# Altium footprint library FootPrintLib_4.PcbLib: 700 footprints (part 4 of 44)
Each footprint in its own frame and in the unit in brackets; x right, y up, seen from the top. Pads: shape width x height; smd on the part's side, far side on the other; paste and mask are expansions set on the pad; w line width, h text height; cw(c..) or ccw(c..) is an arc to the next point about the centre after c.
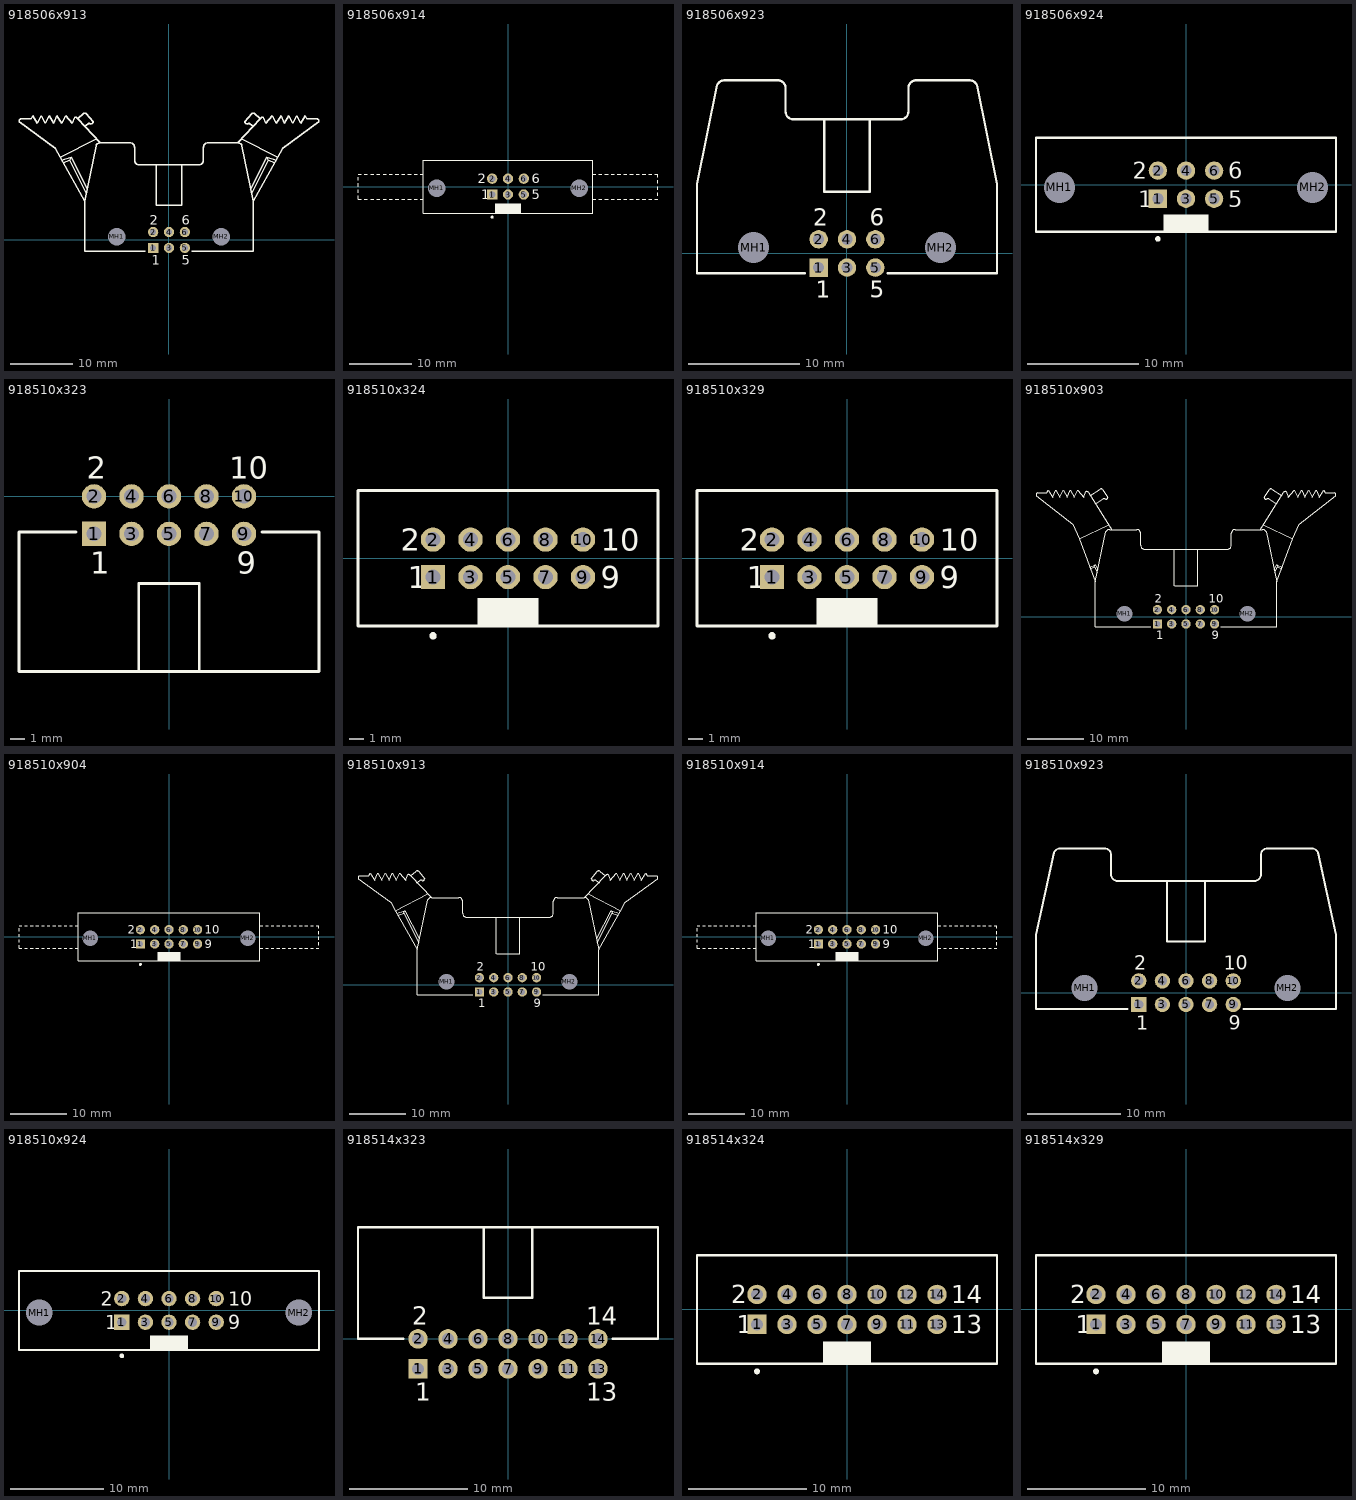
[diagram p3: the footprints below, top view; thin cyan lines are the x and y axes]

## 918506x913 [mm] "Connector; IDC, Thru-Hole; 6 Position; Right Angle; Pitch 2.54 mm; Body 26.90 x 8.5 x 23.30 mm (LxHxW), Locking levers"
height 23.3
pads (8):
  rect 1.65x1.65 hole 1: 1(-2.54,-1.27)
  round 1.65 hole 1: 2(-2.54,1.27) 3(0,-1.27) 4(0,1.27) 5(2.54,-1.27) 6(2.54,1.27)
  round 2.5 hole 2.8 unplated: MH1(-8.38,0.53) MH2(8.38,0.53)
Top Overlay:
  lines w0.2: -17.119,12.722 -15.631,13.218 ; -16.891,12.377 -15.873,12.716 ; -13.488,18.198 -12.923,18.617 cw(c-12.787,18.227) -12.52,18.542 ccw(c-12.467,18.857) -12.148,18.877 -13.207,20.156 ccw(c-13.473,19.899) -13.622,20.238 -14.628,19.388 ; -13.203,7.442 -15.873,12.716 ; -13.056,8.195 -15.631,13.218 ; -11.57,16.204 -17.389,13.199 ; -10.957,15.533 -14.628,19.388 ; -3.765,-1.77 -13.45,-1.77 -13.45,6.23 ; -2.05,5.53 -2.05,12.03 ; -2.04,5.53 2.06,5.53 ; 2.05,5.534 2.05,12.03 ; 3.65,-1.77 13.45,-1.77 13.45,6.23 ; 10.957,15.533 14.628,19.388 ; 11.57,16.204 17.389,13.199 ; 13.056,8.195 15.631,13.218 ; 13.203,7.442 15.873,12.716 ; 13.488,18.198 12.923,18.617 ccw(c12.787,18.227) 12.52,18.542 cw(c12.467,18.857) 12.148,18.877 13.207,20.156 cw(c13.473,19.899) 13.622,20.238 14.628,19.388 ; 16.891,12.377 15.873,12.716 ; 17.119,12.722 15.631,13.218 ; -22.03,19.359 -23.641,19.359 ccw(c-23.641,19.02) -23.95,18.879 -18.195,14.654 -17.389,13.199 ; -22.03,19.359 -21.774,19.83 ; -22.03,19.359 -21.774,19.83 ; -21.774,19.83 -21.03,18.63 -20.43,19.83 -19.78,18.63 -19.16,19.83 -18.46,18.63 -17.91,19.83 -17.16,18.63 -16.53,19.83 -15.5,18.63 -15.093,19.594 cw(c-14.951,19.285) -14.628,19.388 ; -17.389,13.199 -13.45,6.23 ; -15.873,12.716 -15.631,13.218 ; -13.45,6.23 -11.647,15.097 cw(c-11,14.83) -11,15.53 -6.21,15.53 cw(c-6.21,14.83) -5.51,14.83 -5.51,12.73 ccw(c-4.81,12.73) -4.81,12.03 4.81,12.03 ccw(c4.81,12.73) 5.51,12.73 5.51,14.83 cw(c6.21,14.83) 6.21,15.53 11,15.53 cw(c11,14.83) 11.647,15.097 13.45,6.23 ; 13.45,6.23 17.389,13.199 ; 14.628,19.388 cw(c14.951,19.285) 15.093,19.594 15.5,18.63 16.53,19.83 17.16,18.63 17.91,19.83 18.46,18.63 19.16,19.83 19.78,18.63 20.43,19.83 21.03,18.63 21.775,19.83 ; 15.631,13.218 15.873,12.716 ; 17.389,13.199 18.195,14.654 23.95,18.879 ccw(c23.641,19.02) 23.641,19.359 22.03,19.359 ; 21.775,19.83 22.03,19.359 ; 21.775,19.83 22.03,19.359
  text "2" at -3.04,2.47 h1.5
  text "1" at -2.79,-3.97 h1.5
  text "6" at 2.04,2.47 h1.5
  text "5" at 2.04,-3.97 h1.5

## 918506x914 [mm] "Connector; IDC, Thru-Hole; 6 Position; Vertical; Pitch 2.54 mm; Body 26.90 x 8.5 x 23.30 mm (LxWxH), Locking levers"
height 23.3
pads (8):
  rect 1.65x1.65 hole 1: 1(-2.54,-1.27)
  round 1.65 hole 1: 2(-2.54,1.27) 3(0,-1.27) 4(0,1.27) 5(2.54,-1.27) 6(2.54,1.27)
  round 2.5 hole 2.8 unplated: MH1(-11.43,-0.25) MH2(11.43,-0.25)
Top Overlay:
  circle w0.25: c-2.54,-4.9 r0.125
  rectangle: -2.05,-4.25 2.05,-2.7
  lines w0.2: -24.05,-1 -24.05,-0.5 ; -24.05,0 -24.05,0.5 ; -24.05,1 -24.05,1.5 ; -24.05,2 -23.54,2 ; -24.04,-1.5 -24.05,-2 -23.54,-2 ; -23.04,-2 -22.54,-2 ; -23.04,2 -22.54,2 ; -22.04,-2 -21.54,-2 ; -22.04,2 -21.54,2 ; -21.04,-2 -20.54,-2 ; -21.04,2 -20.54,2 ; -20.04,-2 -19.54,-2 ; -20.04,2 -19.54,2 ; -19.04,-2 -18.54,-2 ; -19.04,2 -18.54,2 ; -18.04,-2 -17.54,-2 ; -18.04,2 -17.54,2 ; -17.04,-2 -16.54,-2 ; -17.04,2 -16.54,2 ; -16.04,-2 -15.54,-2 ; -16.04,2 -15.54,2 ; -15.04,-2 -14.54,-2 ; -15.04,2 -14.54,2 ; -14.04,-2 -13.55,-2 ; -14.04,2 -13.55,2 ; 13.55,-2 14.05,-2 ; 13.55,2 14.05,2 ; 14.55,-2 15.05,-2 ; 14.55,2 15.05,2 ; 15.55,-2 16.05,-2 ; 15.55,2 16.05,2 ; 16.55,-2 17.05,-2 ; 16.55,2 17.05,2 ; 17.55,-2 18.05,-2 ; 17.55,2 18.05,2 ; 18.55,-2 19.05,-2 ; 18.55,2 19.05,2 ; 19.55,-2 20.05,-2 ; 19.55,2 20.05,2 ; 20.55,-2 21.05,-2 ; 20.55,2 21.05,2 ; 21.55,-2 22.05,-2 ; 21.55,2 22.05,2 ; 22.55,-2 23.05,-2 ; 22.55,2 23.05,2 ; 23.55,-2 24.05,-2 ; 23.55,2 24.05,2 24.05,1.5 ; 24.05,-1.5 24.05,-1 ; 24.05,-0.5 24.05,0 ; 24.05,0.5 24.05,1 ; -13.55,-4.25 13.55,-4.25 13.55,4.25 -13.55,4.25 -13.55,-4.25
  text "5" at 3.82,-2.02 h1.5
  text "6" at 3.82,0.52 h1.5
  text "1" at -4.32,-2.02 h1.5
  text "2" at -4.82,0.52 h1.5

## 918506x923 [mm] "Connector; IDC, Thru-Hole; 6 Position; Right Angle; Pitch 2.54 mm; Body 26.90 x 8.5 x 17.30 mm (LxHxW), Without locking levers"
height 17.3
pads (8):
  rect 1.65x1.65 hole 1: 1(-2.54,-1.27)
  round 1.65 hole 1: 2(-2.54,1.27) 3(0,-1.27) 4(0,1.27) 5(2.54,-1.27) 6(2.54,1.27)
  round 2.5 hole 2.8 unplated: MH1(-8.38,0.53) MH2(8.38,0.53)
Top Overlay:
  lines w0.2: -3.765,-1.77 -13.45,-1.77 -13.45,6.23 -11.647,15.097 cw(c-11,14.83) -11,15.53 -6.21,15.53 cw(c-6.21,14.83) -5.51,14.83 -5.51,12.73 ccw(c-4.81,12.73) -4.81,12.03 4.81,12.03 ccw(c4.81,12.73) 5.51,12.73 5.51,14.83 cw(c6.21,14.83) 6.21,15.53 11,15.53 cw(c11,14.83) 11.647,15.097 13.45,6.23 13.45,-1.77 3.65,-1.77 ; -2.05,5.53 -2.05,12.03 ; -2.04,5.53 2.06,5.53 ; 2.05,5.534 2.05,12.03
  text "2" at -3.04,2.47 h1.5
  text "1" at -2.79,-3.97 h1.5
  text "6" at 2.04,2.47 h1.5
  text "5" at 2.04,-3.97 h1.5

## 918506x924 [mm] "Connector; IDC, Thru-Hole; 6 Position; Vertical; Pitch 2.54 mm; Body 26.90 x 8.5 x 17.30 mm (LxWxH), Without locking levers"
height 17.3
pads (8):
  rect 1.65x1.65 hole 1: 1(-2.54,-1.27)
  round 1.65 hole 1: 2(-2.54,1.27) 3(0,-1.27) 4(0,1.27) 5(2.54,-1.27) 6(2.54,1.27)
  round 2.5 hole 2.8 unplated: MH1(-11.43,-0.25) MH2(11.43,-0.25)
Top Overlay:
  circle w0.25: c-2.54,-4.9 r0.125
  rectangle: -2.05,-4.25 2.05,-2.7
  lines w0.2: -13.55,-4.25 13.55,-4.25 13.55,4.25 -13.55,4.25 -13.55,-4.25
  text "5" at 3.82,-2.02 h1.5
  text "6" at 3.82,0.52 h1.5
  text "1" at -4.32,-2.02 h1.5
  text "2" at -4.82,0.52 h1.5

## 918510x323 [mm] "Connector; IDC, Low Profile Male Header, Thru-Hole; 10 Position; Right Angle; Pitch 2.54 mm; Body 20.32 x 8.9 x 9.2 mm (LxWxH)"
height 9.2
pads (10):
  rect 1.65x1.65 hole 1: 1(-5.08,-2.54)
  round 1.65 hole 1: 2(-5.08,0) 3(-2.54,-2.54) 4(-2.54,0) 5(0,-2.54) 6(0,0) 7(2.54,-2.54) 8(2.54,0) 9(5.08,-2.54) 10(5.08,0)
Top Overlay:
  lines w0.2: -6.305,-2.413 -10.16,-2.413 -10.16,-11.863 10.16,-11.863 10.16,-2.413 6.305,-2.413 ; -2.05,-11.863 -2.05,-5.893 2.05,-5.893 2.05,-11.863
  text "2" at -5.58,1.2 h1.5
  text "1" at -5.33,-5.24 h1.5
  text "10" at 4.08,1.2 h1.5
  text "9" at 4.58,-5.24 h1.5

## 918510x324 [mm] "Connector; IDC, Low Profile Male Header, Thru-Hole; 10 Position; Vertical; Pitch 2.54 mm; Body 20.32 x 9.2 x 9.45 mm (LxWxH)"
height 9.45
pads (10):
  rect 1.65x1.65 hole 1: 1(-5.08,-1.27)
  round 1.65 hole 1: 2(-5.08,1.27) 3(-2.54,-1.27) 4(-2.54,1.27) 5(0,-1.27) 6(0,1.27) 7(2.54,-1.27) 8(2.54,1.27) 9(5.08,-1.27) 10(5.08,1.27)
Top Overlay:
  circle w0.25: c-5.08,-5.25 r0.125
  rectangle: -2.05,-4.6 2.05,-2.7
  lines w0.2: -10.16,-4.6 10.16,-4.6 10.16,4.6 -10.16,4.6 -10.16,-4.6
  text "9" at 6.28,-2.02 h1.5
  text "10" at 6.28,0.52 h1.5
  text "1" at -6.78,-2.02 h1.5
  text "2" at -7.28,0.52 h1.5

## 918510x329 [mm] "Connector; IDC, Straight Press-in Pin, Thru-Hole; 10 Position; Vertical; Pitch 2.54 mm; Body 20.32 x 9.2 x 9.45 mm (LxWxH)"
height 9.45
pads (10):
  rect 1.65x1.65 hole 1: 1(-5.08,-1.27)
  round 1.65 hole 1: 2(-5.08,1.27) 3(-2.54,-1.27) 4(-2.54,1.27) 5(0,-1.27) 6(0,1.27) 7(2.54,-1.27) 8(2.54,1.27) 9(5.08,-1.27) 10(5.08,1.27)
Top Overlay:
  circle w0.25: c-5.08,-5.25 r0.125
  rectangle: -2.05,-4.6 2.05,-2.7
  lines w0.2: -10.16,-4.6 10.16,-4.6 10.16,4.6 -10.16,4.6 -10.16,-4.6
  text "9" at 6.28,-2.02 h1.5
  text "10" at 6.28,0.52 h1.5
  text "1" at -6.78,-2.02 h1.5
  text "2" at -7.28,0.52 h1.5

## 918510x903 [mm] "Connector; IDC, Thru-Hole; 10 Position; Right Angle; Pitch 2.54 mm; Body 32.30 x 8.5 x 25.75 mm (LxHxW), Locking levers"
height 25.75
pads (12):
  rect 1.65x1.65 hole 1: 1(-5.08,-1.27)
  round 1.65 hole 1: 2(-5.08,1.27) 3(-2.54,-1.27) 4(-2.54,1.27) 5(0,-1.27) 6(0,1.27) 7(2.54,-1.27) 8(2.54,1.27) 9(5.08,-1.27) 10(5.08,1.27)
  round 2.5 hole 2.8 unplated: MH1(-10.92,0.53) MH2(10.92,0.53)
Top Overlay:
  lines w0.2: -17.12,8.851 -16.155,9.3 ; -16.991,8.563 -16.32,8.877 ; -16.985,21.6 -15.262,22.725 cw(c-15.113,22.387) -14.847,22.644 -13.922,21.245 cw(c-14.242,21.225) -14.294,20.91 ccw(c-14.562,20.595) -14.697,20.985 ; -16.063,20.103 -14.7,20.991 ; -15.793,7.925 -16.32,8.877 ; -15.693,8.378 -16.155,9.3 ; -13.765,16.383 -18.989,13.84 ; -13.6,15.53 ccw(c-13.615,14.83) -14.26,15.102 -16.15,6.23 ; -13.54,15.53 -8.765,15.53 cw(c-8.765,14.83) -8.065,14.83 -8.065,12.73 ccw(c-7.365,12.73) -7.365,12.03 7.365,12.03 ccw(c7.365,12.73) 8.065,12.73 8.065,14.83 cw(c8.765,14.83) 8.765,15.53 13.54,15.53 ; -13.194,15.53 -17.328,22.058 ccw(c-17.651,21.956) -17.793,22.265 -18.2,21.301 -19.23,22.501 -19.86,21.301 -20.61,22.501 -21.16,21.301 -21.86,22.501 -22.48,21.301 -23.13,22.501 -23.73,21.301 -24.475,22.501 ; -6.305,-1.77 -16.15,-1.77 -16.15,6.23 ; -2.05,5.53 -2.05,12.03 ; -2.04,5.53 2.06,5.53 ; 2.05,5.534 2.05,12.03 ; 6.19,-1.77 16.15,-1.77 16.15,6.23 ; 13.194,15.53 17.328,22.058 cw(c17.651,21.956) 17.793,22.265 18.2,21.301 19.23,22.501 19.86,21.301 20.61,22.501 21.16,21.301 21.86,22.501 22.48,21.301 23.13,22.501 23.73,21.301 24.475,22.501 ; 13.6,15.53 cw(c13.615,14.83) 14.26,15.102 16.15,6.23 ; 13.765,16.383 18.989,13.84 ; 14.697,20.985 ccw(c14.562,20.595) 14.294,20.91 cw(c14.242,21.225) 13.922,21.245 14.847,22.644 cw(c15.113,22.387) 15.262,22.725 16.985,21.6 ; 14.7,20.991 16.063,20.103 ; 15.693,8.378 16.155,9.3 ; 15.793,7.925 16.32,8.877 ; 16.991,8.563 16.32,8.877 ; 17.12,8.851 16.155,9.3 ; -24.73,22.03 -24.475,22.501 ; -24.73,22.03 -24.475,22.501 ; -24.73,22.03 -26.341,22.03 ccw(c-26.341,21.69) -26.65,21.549 -20.115,16.455 -18.989,13.84 ; -18.989,13.84 -16.15,6.23 ; -16.32,8.877 -16.155,9.3 ; 16.15,6.23 18.989,13.84 ; 16.155,9.3 16.32,8.877 ; 18.989,13.84 20.115,16.455 26.65,21.549 ccw(c26.341,21.69) 26.341,22.03 24.73,22.03 ; 24.475,22.501 24.73,22.03 ; 24.475,22.501 24.73,22.03
  text "2" at -5.58,2.47 h1.5
  text "1" at -5.33,-3.97 h1.5
  text "10" at 4.08,2.47 h1.5
  text "9" at 4.58,-3.97 h1.5

## 918510x904 [mm] "Connector; IDC, Thru-Hole; 10 Position; Vertical; Pitch 2.54 mm; Body 32.30 x 8.5 x 25.75 mm (LxWxH), Locking levers"
height 25.75
pads (12):
  rect 1.65x1.65 hole 1: 1(-5.08,-1.27)
  round 1.65 hole 1: 2(-5.08,1.27) 3(-2.54,-1.27) 4(-2.54,1.27) 5(0,-1.27) 6(0,1.27) 7(2.54,-1.27) 8(2.54,1.27) 9(5.08,-1.27) 10(5.08,1.27)
  round 2.5 hole 2.8 unplated: MH1(-13.97,-0.25) MH2(13.97,-0.25)
Top Overlay:
  circle w0.25: c-5.08,-4.9 r0.125
  rectangle: -2.05,-4.25 2.05,-2.7
  lines w0.2: -26.65,-1.5 -26.65,-2 -26.15,-2 ; -26.65,-1 -26.65,-0.5 ; -26.65,0 -26.65,0.5 ; -26.65,1 -26.65,1.5 ; -26.65,2 -26.15,2 ; -25.65,-2 -25.15,-2 ; -25.65,2 -25.15,2 ; -24.65,-2 -24.15,-2 ; -24.65,2 -24.15,2 ; -23.65,-2 -23.15,-2 ; -23.65,2 -23.15,2 ; -22.65,-2 -22.15,-2 ; -22.65,2 -22.15,2 ; -21.65,-2 -21.15,-2 ; -21.65,2 -21.15,2 ; -20.65,-2 -20.15,-2 ; -20.65,2 -20.15,2 ; -19.65,-2 -19.15,-2 ; -19.65,2 -19.15,2 ; -18.65,-2 -18.15,-2 ; -18.65,2 -18.15,2 ; -17.65,-2 -17.15,-2 ; -17.65,2 -17.15,2 ; -16.65,-2 -16.15,-2 ; -16.65,2 -16.15,2 ; 16.15,-2 16.65,-2 ; 16.15,2 16.65,2 ; 17.15,-2 17.65,-2 ; 17.15,2 17.65,2 ; 18.15,-2 18.65,-2 ; 18.15,2 18.65,2 ; 19.15,-2 19.65,-2 ; 19.15,2 19.65,2 ; 20.15,-2 20.65,-2 ; 20.15,2 20.65,2 ; 21.15,-2 21.65,-2 ; 21.15,2 21.65,2 ; 22.15,-2 22.65,-2 ; 22.15,2 22.65,2 ; 23.15,-2 23.65,-2 ; 23.15,2 23.65,2 ; 24.15,-2 24.65,-2 ; 24.15,2 24.65,2 ; 25.15,-2 25.65,-2 ; 25.15,2 25.65,2 ; 26.15,-2 26.65,-2 ; 26.15,2 26.65,2 26.65,1.5 ; 26.65,-1.5 26.65,-1 ; 26.65,-0.5 26.65,0 ; 26.65,0.5 26.65,1 ; -16.15,-4.25 -16.15,4.25 16.15,4.25 16.15,-4.25 -16.15,-4.25
  text "2" at -7.36,0.52 h1.5
  text "1" at -6.86,-2.02 h1.5
  text "10" at 6.36,0.52 h1.5
  text "9" at 6.36,-2.02 h1.5

## 918510x913 [mm] "Connector; IDC, Thru-Hole; 10 Position; Right Angle; Pitch 2.54 mm; Body 32.30 x 8.5 x 23.30 mm (LxHxW), Locking levers"
height 23.3
pads (12):
  rect 1.65x1.65 hole 1: 1(-5.08,-1.27)
  round 1.65 hole 1: 2(-5.08,1.27) 3(-2.54,-1.27) 4(-2.54,1.27) 5(0,-1.27) 6(0,1.27) 7(2.54,-1.27) 8(2.54,1.27) 9(5.08,-1.27) 10(5.08,1.27)
  round 2.5 hole 2.8 unplated: MH1(-10.92,0.53) MH2(10.92,0.53)
Top Overlay:
  lines w0.2: -19.819,12.722 -18.331,13.218 ; -19.591,12.377 -18.573,12.716 ; -16.188,18.198 -15.623,18.617 cw(c-15.487,18.227) -15.22,18.542 ccw(c-15.167,18.857) -14.848,18.877 -15.907,20.156 ccw(c-16.173,19.899) -16.322,20.238 -17.328,19.388 ; -15.903,7.442 -18.573,12.716 ; -15.756,8.195 -18.331,13.218 ; -14.27,16.204 -20.089,13.199 ; -13.657,15.533 -17.328,19.388 ; -13.6,15.53 ccw(c-13.615,14.83) -14.26,15.102 -16.15,6.23 ; -13.54,15.53 -8.765,15.53 cw(c-8.765,14.83) -8.065,14.83 -8.065,12.73 ccw(c-7.365,12.73) -7.365,12.03 7.365,12.03 ccw(c7.365,12.73) 8.065,12.73 8.065,14.83 cw(c8.765,14.83) 8.765,15.53 13.54,15.53 ; -6.305,-1.77 -16.15,-1.77 -16.15,6.23 ; -2.05,5.53 -2.05,12.03 ; -2.04,5.53 2.06,5.53 ; 2.05,5.534 2.05,12.03 ; 6.19,-1.77 16.15,-1.77 16.15,6.23 ; 13.6,15.53 cw(c13.615,14.83) 14.26,15.102 16.15,6.23 ; 13.657,15.533 17.328,19.388 ; 14.27,16.204 20.089,13.199 ; 15.756,8.195 18.331,13.218 ; 15.903,7.442 18.573,12.716 ; 16.188,18.198 15.623,18.617 ccw(c15.487,18.227) 15.22,18.542 cw(c15.167,18.857) 14.848,18.877 15.907,20.156 cw(c16.173,19.899) 16.322,20.238 17.328,19.388 ; 19.591,12.377 18.573,12.716 ; 19.819,12.722 18.331,13.218 ; -24.73,19.359 -26.341,19.359 ccw(c-26.341,19.02) -26.65,18.879 -20.895,14.654 -20.089,13.199 ; -24.73,19.359 -24.474,19.83 ; -24.73,19.359 -24.474,19.83 ; -24.474,19.83 -23.73,18.63 -23.13,19.83 -22.48,18.63 -21.86,19.83 -21.16,18.63 -20.61,19.83 -19.86,18.63 -19.23,19.83 -18.2,18.63 -17.793,19.594 cw(c-17.651,19.285) -17.328,19.388 ; -20.089,13.199 -16.15,6.23 ; -18.573,12.716 -18.331,13.218 ; 16.15,6.23 20.089,13.199 ; 17.328,19.388 cw(c17.651,19.285) 17.793,19.594 18.2,18.63 19.23,19.83 19.86,18.63 20.61,19.83 21.16,18.63 21.86,19.83 22.48,18.63 23.13,19.83 23.73,18.63 24.474,19.83 ; 18.331,13.218 18.573,12.716 ; 20.089,13.199 20.895,14.654 26.65,18.879 ccw(c26.341,19.02) 26.341,19.359 24.73,19.359 ; 24.474,19.83 24.73,19.359 ; 24.474,19.83 24.73,19.359
  text "9" at 4.58,-3.97 h1.5
  text "10" at 4.08,2.47 h1.5
  text "1" at -5.33,-3.97 h1.5
  text "2" at -5.58,2.47 h1.5

## 918510x914 [mm] "Connector; IDC, Thru-Hole; 10 Position; Vertical; Pitch 2.54 mm; Body 32.30 x 8.5 x 23.30 mm (LxWxH), Locking levers"
height 23.3
pads (12):
  rect 1.65x1.65 hole 1: 1(-5.08,-1.27)
  round 1.65 hole 1: 2(-5.08,1.27) 3(-2.54,-1.27) 4(-2.54,1.27) 5(0,-1.27) 6(0,1.27) 7(2.54,-1.27) 8(2.54,1.27) 9(5.08,-1.27) 10(5.08,1.27)
  round 2.5 hole 2.8 unplated: MH1(-13.97,-0.25) MH2(13.97,-0.25)
Top Overlay:
  circle w0.25: c-5.08,-4.9 r0.125
  rectangle: -2.05,-4.25 2.05,-2.7
  lines w0.2: -26.65,-1.5 -26.65,-2 -26.15,-2 ; -26.65,-1 -26.65,-0.5 ; -26.65,0 -26.65,0.5 ; -26.65,1 -26.65,1.5 ; -26.65,2 -26.15,2 ; -25.65,-2 -25.15,-2 ; -25.65,2 -25.15,2 ; -24.65,-2 -24.15,-2 ; -24.65,2 -24.15,2 ; -23.65,-2 -23.15,-2 ; -23.65,2 -23.15,2 ; -22.65,-2 -22.15,-2 ; -22.65,2 -22.15,2 ; -21.65,-2 -21.15,-2 ; -21.65,2 -21.15,2 ; -20.65,-2 -20.15,-2 ; -20.65,2 -20.15,2 ; -19.65,-2 -19.15,-2 ; -19.65,2 -19.15,2 ; -18.65,-2 -18.15,-2 ; -18.65,2 -18.15,2 ; -17.65,-2 -17.15,-2 ; -17.65,2 -17.15,2 ; -16.65,-2 -16.15,-2 ; -16.65,2 -16.15,2 ; 16.15,-2 16.65,-2 ; 16.15,2 16.65,2 ; 17.15,-2 17.65,-2 ; 17.15,2 17.65,2 ; 18.15,-2 18.65,-2 ; 18.15,2 18.65,2 ; 19.15,-2 19.65,-2 ; 19.15,2 19.65,2 ; 20.15,-2 20.65,-2 ; 20.15,2 20.65,2 ; 21.15,-2 21.65,-2 ; 21.15,2 21.65,2 ; 22.15,-2 22.65,-2 ; 22.15,2 22.65,2 ; 23.15,-2 23.65,-2 ; 23.15,2 23.65,2 ; 24.15,-2 24.65,-2 ; 24.15,2 24.65,2 ; 25.15,-2 25.65,-2 ; 25.15,2 25.65,2 ; 26.15,-2 26.65,-2 ; 26.15,2 26.65,2 26.65,1.5 ; 26.65,-1.5 26.65,-1 ; 26.65,-0.5 26.65,0 ; 26.65,0.5 26.65,1 ; -16.15,-4.25 -16.15,4.25 16.15,4.25 16.15,-4.25 -16.15,-4.25
  text "2" at -7.36,0.52 h1.5
  text "1" at -6.86,-2.02 h1.5
  text "10" at 6.36,0.52 h1.5
  text "9" at 6.36,-2.02 h1.5

## 918510x923 [mm] "Connector; IDC, Thru-Hole; 10 Position; Right Angle; Pitch 2.54 mm; Body 32.30 x 8.5 x 17.30 mm (LxHxW), Without locking levers"
height 17.3
pads (12):
  rect 1.65x1.65 hole 1: 1(-5.08,-1.27)
  round 1.65 hole 1: 2(-5.08,1.27) 3(-2.54,-1.27) 4(-2.54,1.27) 5(0,-1.27) 6(0,1.27) 7(2.54,-1.27) 8(2.54,1.27) 9(5.08,-1.27) 10(5.08,1.27)
  round 2.5 hole 2.8 unplated: MH1(-10.92,0.53) MH2(10.92,0.53)
Top Overlay:
  lines w0.2: -6.305,-1.77 -16.15,-1.77 -16.15,6.23 -14.2,15.102 cw(c-13.555,14.83) -13.54,15.53 -8.765,15.53 cw(c-8.765,14.83) -8.065,14.83 -8.065,12.73 ccw(c-7.365,12.73) -7.365,12.03 7.365,12.03 ccw(c7.365,12.73) 8.065,12.73 8.065,14.83 cw(c8.765,14.83) 8.765,15.53 13.54,15.53 cw(c13.555,14.83) 14.2,15.102 16.15,6.23 16.15,-1.77 6.19,-1.77 ; -2.05,5.53 -2.05,12.03 ; -2.04,5.53 2.06,5.53 ; 2.05,5.534 2.05,12.03
  text "2" at -5.58,2.47 h1.5
  text "1" at -5.33,-3.97 h1.5
  text "10" at 4.08,2.47 h1.5
  text "9" at 4.58,-3.97 h1.5

## 918510x924 [mm] "Connector; IDC, Thru-Hole; 10 Position; Vertical; Pitch 2.54 mm; Body 32.30 x 8.5 x 17.30 mm (LxWxH), Without locking levers"
height 17.3
pads (12):
  rect 1.65x1.65 hole 1: 1(-5.08,-1.27)
  round 1.65 hole 1: 2(-5.08,1.27) 3(-2.54,-1.27) 4(-2.54,1.27) 5(0,-1.27) 6(0,1.27) 7(2.54,-1.27) 8(2.54,1.27) 9(5.08,-1.27) 10(5.08,1.27)
  round 2.5 hole 2.8 unplated: MH1(-13.97,-0.25) MH2(13.97,-0.25)
Top Overlay:
  circle w0.25: c-5.08,-4.9 r0.125
  rectangle: -2.05,-4.25 2.05,-2.7
  lines w0.2: -16.15,-4.25 16.15,-4.25 16.15,4.25 -16.15,4.25 -16.15,-4.25
  text "9" at 6.36,-2.02 h1.5
  text "10" at 6.36,0.52 h1.5
  text "1" at -6.86,-2.02 h1.5
  text "2" at -7.36,0.52 h1.5

## 918514x323 [mm] "Connector; IDC, Low Profile Male Header, Thru-Hole; 14 Position; Right Angle; Pitch 2.54 mm; Body 25.40 x 8.9 x 9.2 mm (LxWxH)"
height 9.2
pads (14):
  rect 1.65x1.65 hole 1: 1(-7.62,-2.54)
  round 1.65 hole 1: 2(-7.62,0) 3(-5.08,-2.54) 4(-5.08,0) 5(-2.54,-2.54) 6(-2.54,0) 7(0,-2.54) 8(0,0) 9(2.54,-2.54) 10(2.54,0) 11(5.08,-2.54) 12(5.08,0) 13(7.62,-2.54) 14(7.62,0)
Top Overlay:
  lines w0.2: -8.845,0 -12.7,0 -12.7,9.45 12.7,9.45 12.7,0 8.845,0 ; -2.05,9.45 -2.05,3.48 2.05,3.48 2.05,9.45
  text "13" at 6.62,-5.24 h1.5
  text "14" at 6.62,1.2 h1.5
  text "1" at -7.87,-5.24 h1.5
  text "2" at -8.12,1.2 h1.5

## 918514x324 [mm] "Connector; IDC, Low Profile Male Header, Thru-Hole; 14 Position; Vertical; Pitch 2.54 mm; Body 25.40 x 9.2 x 9.45 mm (LxWxH)"
height 9.45
pads (14):
  rect 1.65x1.65 hole 1: 1(-7.62,-1.27)
  round 1.65 hole 1: 2(-7.62,1.27) 3(-5.08,-1.27) 4(-5.08,1.27) 5(-2.54,-1.27) 6(-2.54,1.27) 7(0,-1.27) 8(0,1.27) 9(2.54,-1.27) 10(2.54,1.27) 11(5.08,-1.27) 12(5.08,1.27) 13(7.62,-1.27) 14(7.62,1.27)
Top Overlay:
  circle w0.25: c-7.62,-5.25 r0.125
  rectangle: -2.05,-4.6 2.05,-2.7
  lines w0.2: -12.7,-4.6 12.7,-4.6 12.7,4.6 -12.7,4.6 -12.7,-4.6
  text "13" at 8.82,-2.02 h1.5
  text "14" at 8.82,0.52 h1.5
  text "1" at -9.32,-2.02 h1.5
  text "2" at -9.82,0.52 h1.5

## 918514x329 [mm] "Connector; IDC, Straight Press-in Pin, Thru-Hole; 14 Position; Vertical; Pitch 2.54 mm; Body 25.40 x 9.2 x 9.45 mm (LxWxH)"
height 9.45
pads (14):
  rect 1.65x1.65 hole 1: 1(-7.62,-1.27)
  round 1.65 hole 1: 2(-7.62,1.27) 3(-5.08,-1.27) 4(-5.08,1.27) 5(-2.54,-1.27) 6(-2.54,1.27) 7(0,-1.27) 8(0,1.27) 9(2.54,-1.27) 10(2.54,1.27) 11(5.08,-1.27) 12(5.08,1.27) 13(7.62,-1.27) 14(7.62,1.27)
Top Overlay:
  circle w0.25: c-7.62,-5.25 r0.125
  rectangle: -2.05,-4.6 2.05,-2.7
  lines w0.2: -12.7,-4.6 12.7,-4.6 12.7,4.6 -12.7,4.6 -12.7,-4.6
  text "13" at 8.82,-2.02 h1.5
  text "14" at 8.82,0.52 h1.5
  text "1" at -9.32,-2.02 h1.5
  text "2" at -9.82,0.52 h1.5